# Altium schematic symbol library Display.SchLib: 5 symbols
Pins are listed as number, name and electrical type; pins without a type are passive.

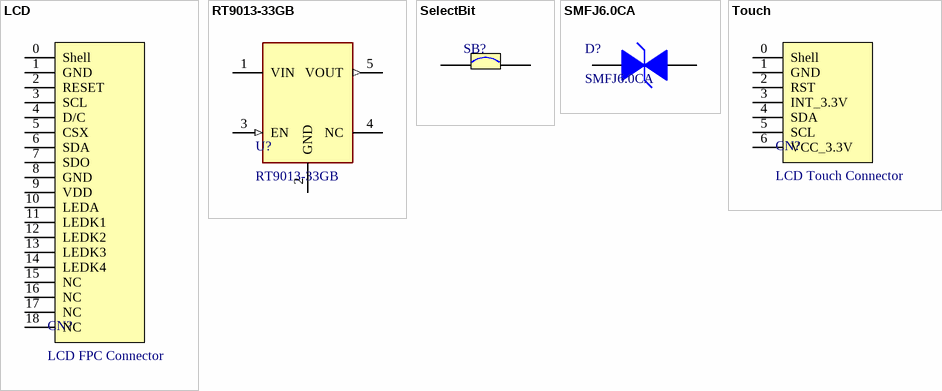
[diagram p0: symbols LCD to Touch]

## LCD
designator CN?, comment LCD FPC Connector
2.8英寸TFT-LCD电容触摸屏接插式FPC座子
footprint FPC_Connector_0.5mm_18P
pins: 0 Shell, 1 GND, 2 RESET, 3 SCL, 4 D/C, 5 CSX, 6 SDA, 7 SDO, 8 GND, 9 VDD, 10 LEDA, 11 LEDK1, 12 LEDK2, 13 LEDK3, 14 LEDK4, 15 NC, 16 NC, 17 NC, 18 NC

## RT9013-33GB
designator U?
Linear Voltage Regulator IC 1 Output 500mA SOT-23-5; MF: Richtek USA; Availability: Unavailable; Price: None; SnapEDA_Link: https://www.snapeda.com/parts/RT9013-33GB/Richtek%20USA%20Inc./view-part/553199/?ref=snap; Value: *; MP: RT9013-33GB; Package: SOT-23-5 Richtek
footprint SOT94P279X129-5N
pins: 1 VIN (power), 2 GND (power), 3 EN (in), 4 NC, 5 VOUT (out)

## SelectBit
designator SB?  (value not drawn)
跨接桥，用于选择不同的模式，可以用锡连上，或者焊上0R电阻
footprint SelectBit 0402
pins: 1, 2

## SMFJ6.0CA
designator D?
贴片TVS瞬变抑制二极管 6V/双向
footprint SMFJ6.0CA (贴片TVS瞬变抑制二极管 6V/双向)
pins: 1, 2

## Touch
designator CN?, comment LCD Touch Connector
2.8英寸TFT-LCD电容触摸屏触摸检测芯片接插式FPC座子
footprint FPC_Connector_0.5mm_6P
pins: 0 Shell, 1 GND, 2 RST, 3 INT_3.3V, 4 SDA, 5 SCL, 6 VCC_3.3V